# Altium footprint library ECEA1VKS220 (1902011).PcbLib: 1 footprints
Each footprint in its own frame and in the unit in brackets; x right, y up, seen from the top. Pads: shape width x height; smd on the part's side, far side on the other; paste and mask are expansions set on the pad; w line width, h text height; cw(c..) or ccw(c..) is an arc to the next point about the centre after c.
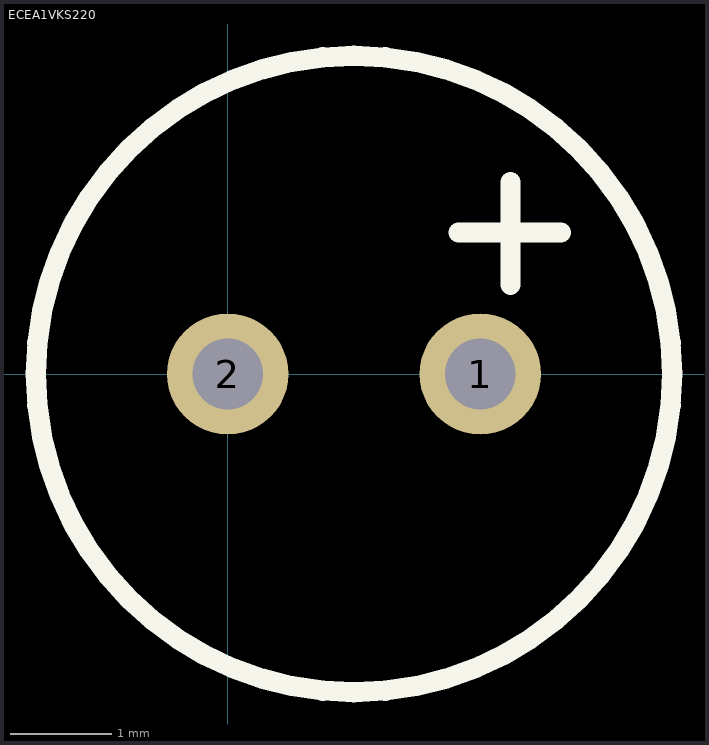
[diagram p0: the footprint, top view; thin cyan lines are the x and y axes]

## ECEA1VKS220 [mm] "PANASONIC - ECEA1VKS220 - CAPACITOR, RADIAL, 35V, 22UF"
height 5
pads (2):
  round 1.2 hole 0.7: 1(2.5,0) 2(0,0)
Top Overlay:
  circle w0.2: c1.25,0 r3.15
  lines w0.2: 2.284,1.4 3.3,1.4 ; 2.8,0.884 2.8,1.9
Mechanical 1:
  circle w0.1: c1.25,0 r3.15
3D body: height 5, standoff 0, extent -1.875,-3.144 4.4,3.144